# EAGLE library part MAX4234 (library sjg-opamp)
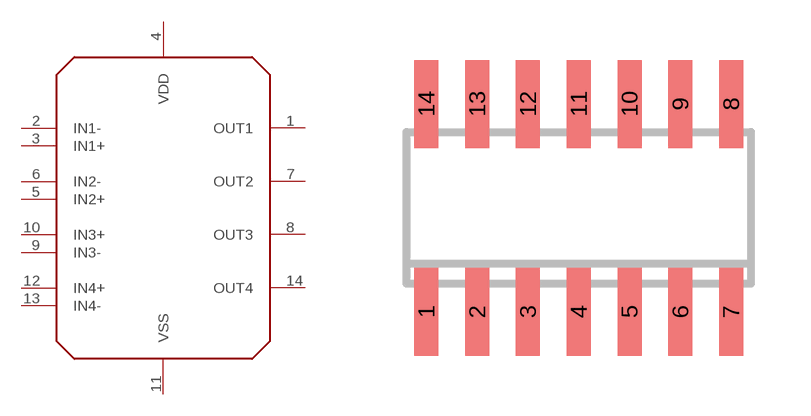
[diagram p2: symbol with the pads of SO14; footprint SO14]

Designator prefix -

## MAX4234  [SO14]
1  OUT1
2  IN1-
3  IN1+
4  VDD
5  IN2+
6  IN2-
7  OUT2
8  OUT3
9  IN3-
10  IN3+
11  VSS
12  IN4+
13  IN4-
14  OUT4

## Footprint SO14 (pad centres in mm)
SMALL OUTLINE INTEGRATED CIRCUIT body 3.9 mm/JEDEC MS-012AC
smd 0.6 x 2.2: 1 -3.81,-2.6; 2 -2.54,-2.6; 3 -1.27,-2.6; 4 0,-2.6; 5 1.27,-2.6; 6 2.54,-2.6; 7 3.81,-2.6; 8 3.81,2.6; 9 2.54,2.6; 10 1.27,2.6; 11 0,2.6; 12 -1.27,2.6; 13 -2.54,2.6; 14 -3.81,2.6